# Altium footprint library libysk_mechanical.PcbLib: 4 footprints
Each footprint in its own frame and in the unit in brackets; x right, y up, seen from the top. Pads: shape width x height; smd on the part's side, far side on the other; paste and mask are expansions set on the pad; w line width, h text height; cw(c..) or ccw(c..) is an arc to the next point about the centre after c.
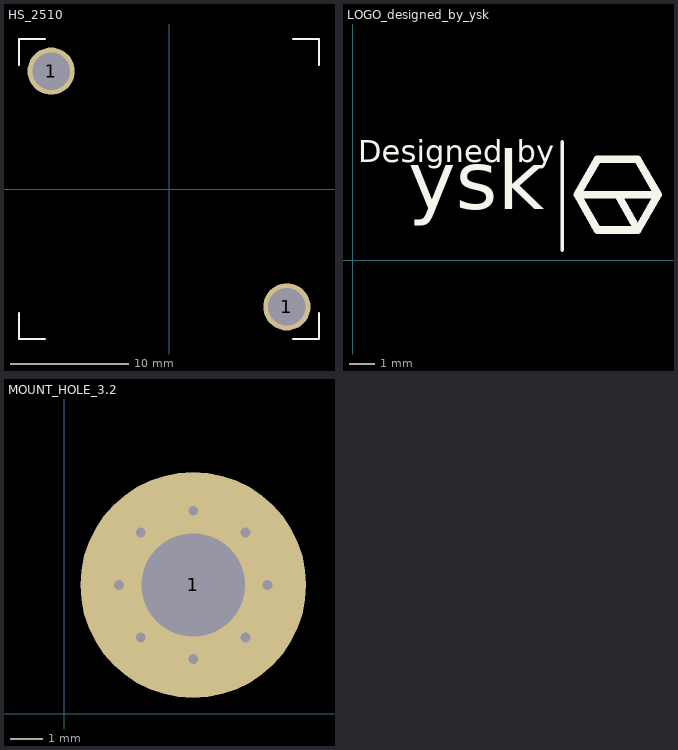
[diagram p0: the footprints below, top view; thin cyan lines are the x and y axes]

## HS_2510 [mm] "Heatsink, 25x25, height 10mm"
pads (2):
  round 4 / inner round 0 / far side round 6.5 hole 3.2: 1(-10,10) 1(10,-10)
Top Overlay:
  lines w0.15: -12.725,-10.5 -12.725,-12.725 -10.5,-12.725 ; -12.725,10.5 -12.725,12.725 -10.5,12.725 ; 10.5,-12.725 12.725,-12.725 12.725,-10.5 ; 10.5,12.725 12.725,12.725 12.725,10.5
3D body "JIS B 1176 - M3 x 5 - 0.5.stp": height 3.3, standoff -4.7, extent 7.25,-12.75 12.75,-7.25
3D body "JIS B 1176 - M3 x 5 - 0.5.stp": height 3.3, standoff -4.7, extent -12.75,7.25 -7.25,12.75
3D body "Heatsink_25x25x10.stp": height 10.3, standoff 0.3, extent -12.5,-12.5 12.5,12.5

## LOGO_designed_by_ysk [mm] "\"Designed by ysk\" logo"
Top Overlay:
  lines w0.15: 8.3,0.4 8.3,4.7
  lines w0.3: 10.5,2.6 11.3,1.2 ; 8.9,2.6 12.1,2.6 ; 8.9,2.6 9.7,1.2 11.3,1.2 ; 8.9,2.6 9.7,4 11.3,4 12.1,2.6 ; 11.3,1.2 12.1,2.6
  text "Designed" at 0.2,3.586 h1.52
  text "by" at 6.5,3.586 h1.52
  text "ysk" at 2.2,1.252 h4

## LOGO_ysk_bmp [mm]

## MOUNT_HOLE_3.2 [mm] "mouting hole for corners, D=3.20mm"
pads (1):
  round 7 hole 3.2 paste+0: 1(4,4)
via 4,6.3 diameter 0.7 hole 0.305
via 6.3,4 diameter 0.7 hole 0.305
via 4,1.7 diameter 0.7 hole 0.305
via 1.7,4 diameter 0.7 hole 0.305
via 2.374,2.374 diameter 0.7 hole 0.305
via 5.626,2.374 diameter 0.7 hole 0.305
via 5.626,5.626 diameter 0.7 hole 0.305
via 2.374,5.626 diameter 0.7 hole 0.305
Top Layer:
  pour cut-out: 0,0
Mechanical 1:
  pour cut-out: -1,9.3
3D body "JIS B 1176 - M3 x 5 - 0.5.stp": height 3, standoff -5, extent 1.25,1.25 6.75,6.75